# Altium schematic symbol library MATCN.SchLib: 28 symbols
Pins are listed as number, name and electrical type; pins without a type are passive.

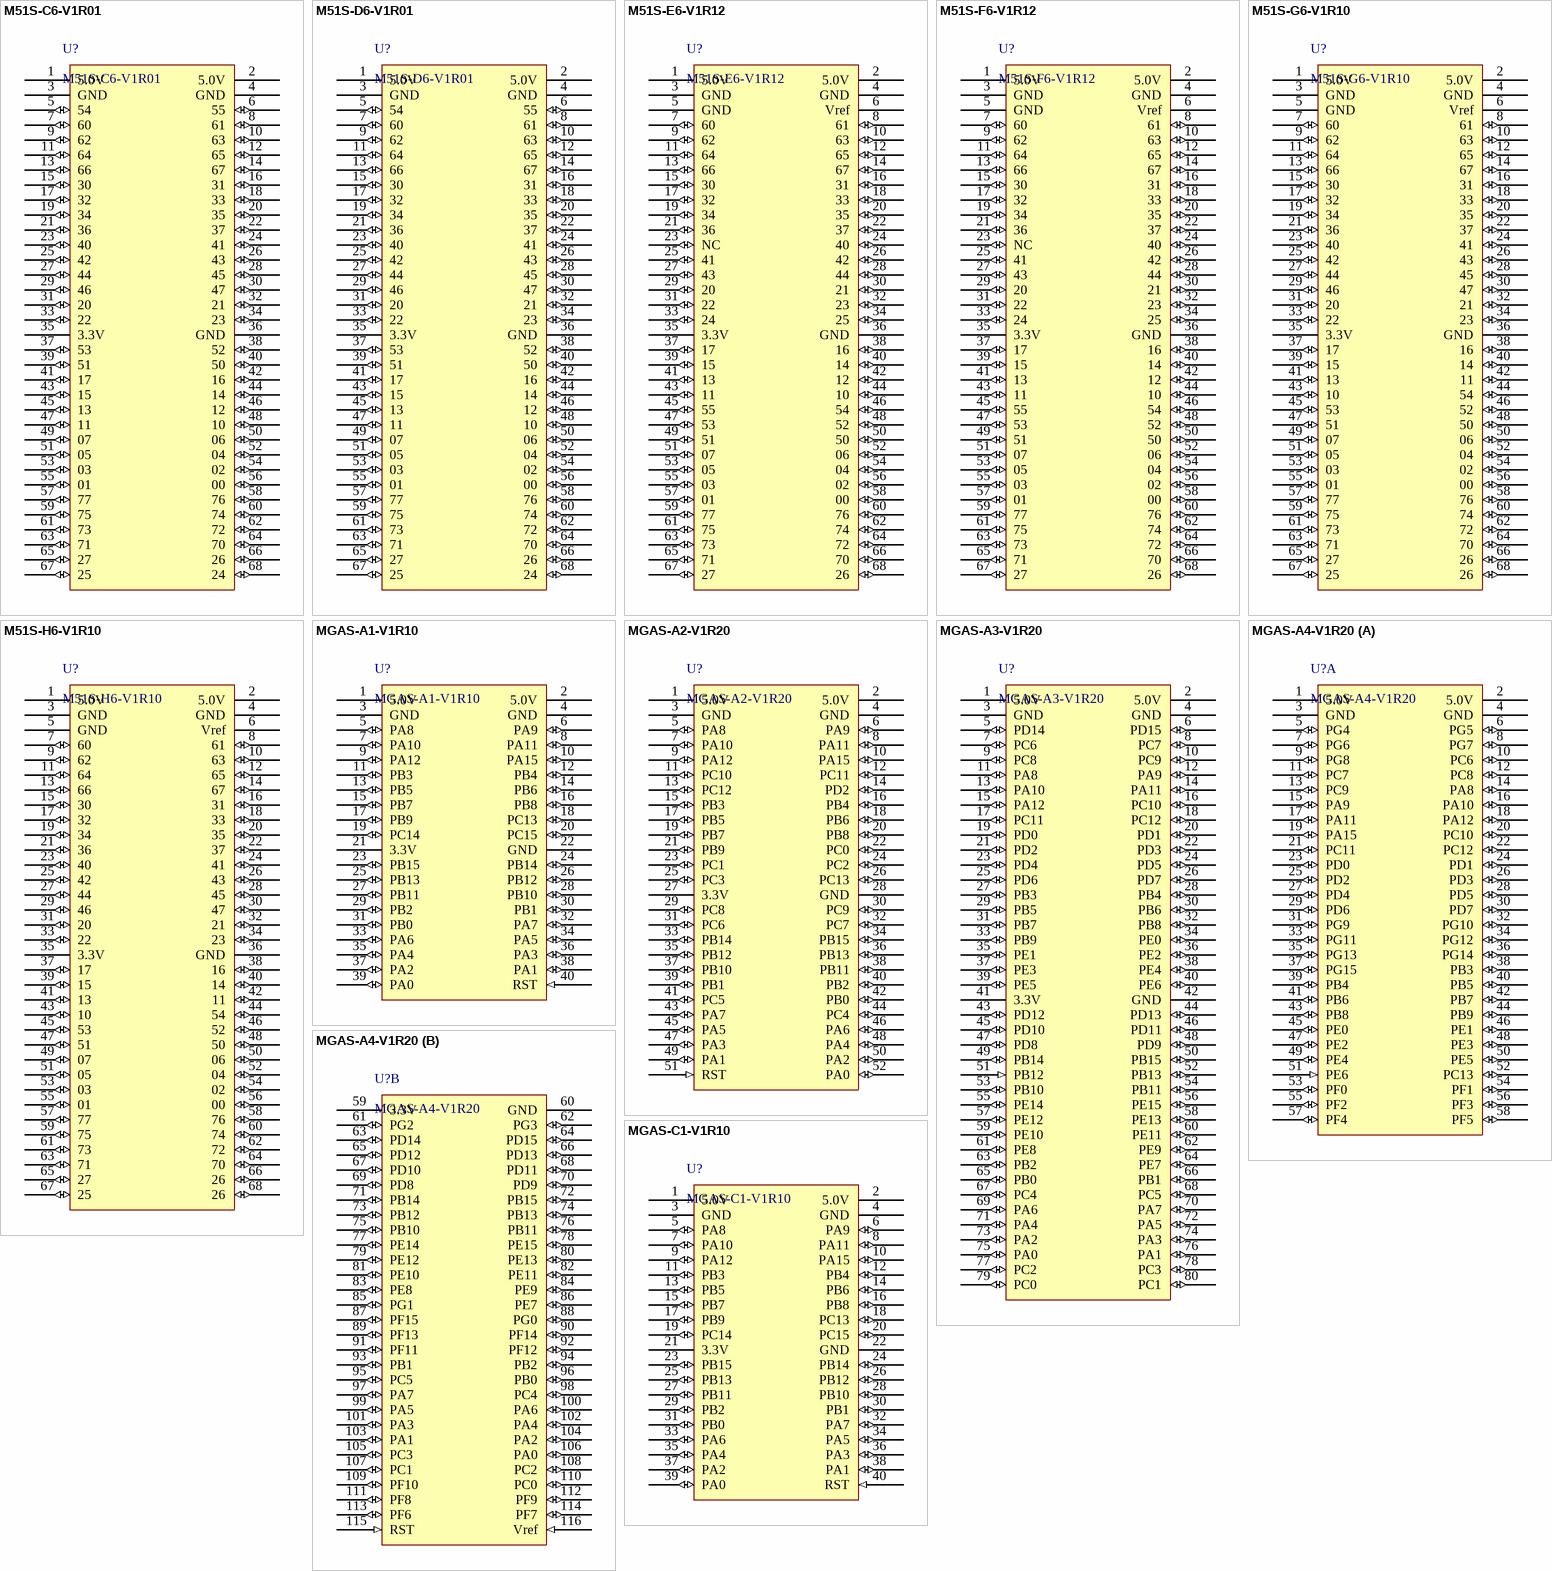
[diagram p0: symbols M51S-C6-V1R01 to MGAS-C1-V1R10]

## M51S-C6-V1R01
designator U?
footprint M51S-C6-PCBLIB-V1R01
pins: 1 5.0V (power), 2 5.0V (power), 3 GND (power), 4 GND (power), 5 54 (io), 6 55 (io), 7 60 (io), 8 61 (io), 9 62 (io), 10 63 (io), 11 64 (io), 12 65 (io), 13 66 (io), 14 67 (io), 15 30 (io), 16 31 (io), 17 32 (io), 18 33 (io), 19 34 (io), 20 35 (io), 21 36 (io), 22 37 (io), 23 40 (io), 24 41 (io), 25 42 (io), 26 43 (io), 27 44 (io), 28 45 (io), 29 46 (io), 30 47 (io), 31 20 (io), 32 21 (io), 33 22 (io), 34 23 (io), 35 3.3V (power), 36 GND (power), 37 53 (io), 38 52 (io), 39 51 (io), 40 50 (io), 41 17 (io), 42 16 (io), 43 15 (io), 44 14 (io), 45 13 (io), 46 12 (io), 47 11 (io), 48 10 (io), 49 07 (io), 50 06 (io), 51 05 (io), 52 04 (io), 53 03 (io), 54 02 (io), 55 01 (io), 56 00 (io), 57 77 (io), 58 76 (io), 59 75 (io), 60 74 (io), 61 73 (io), 62 72 (io), 63 71 (io), 64 70 (io), 65 27 (io), 66 26 (io), 67 25 (io), 68 24 (io)

## M51S-D6-V1R01
designator U?
M51S-D6-V1R01:STC15W4K56S4-30I-LQFP64S
footprint M51S-D6-PCBLIB-V1R01
pins: 1 5.0V (power), 2 5.0V (power), 3 GND (power), 4 GND (power), 5 54 (io), 6 55 (io), 7 60 (io), 8 61 (io), 9 62 (io), 10 63 (io), 11 64 (io), 12 65 (io), 13 66 (io), 14 67 (io), 15 30 (io), 16 31 (io), 17 32 (io), 18 33 (io), 19 34 (io), 20 35 (io), 21 36 (io), 22 37 (io), 23 40 (io), 24 41 (io), 25 42 (io), 26 43 (io), 27 44 (io), 28 45 (io), 29 46 (io), 30 47 (io), 31 20 (io), 32 21 (io), 33 22 (io), 34 23 (io), 35 3.3V (power), 36 GND (power), 37 53 (io), 38 52 (io), 39 51 (io), 40 50 (io), 41 17 (io), 42 16 (io), 43 15 (io), 44 14 (io), 45 13 (io), 46 12 (io), 47 11 (io), 48 10 (io), 49 07 (io), 50 06 (io), 51 05 (io), 52 04 (io), 53 03 (io), 54 02 (io), 55 01 (io), 56 00 (io), 57 77 (io), 58 76 (io), 59 75 (io), 60 74 (io), 61 73 (io), 62 72 (io), 63 71 (io), 64 70 (io), 65 27 (io), 66 26 (io), 67 25 (io), 68 24 (io)

## M51S-E6-V1R12
designator U?
M51S-E6-V1R12:STC8A8K64S4A12-28I-LQFP64
footprint M51S-E6-PCBLIB-V1R12
pins: 1 5.0V (power), 2 5.0V (power), 3 GND (power), 4 GND (power), 5 GND (power), 6 Vref (power), 7 60 (io), 8 61 (io), 9 62 (io), 10 63 (io), 11 64 (io), 12 65 (io), 13 66 (io), 14 67 (io), 15 30 (io), 16 31 (io), 17 32 (io), 18 33 (io), 19 34 (io), 20 35 (io), 21 36 (io), 22 37 (io), 23 NC (io), 24 40 (io), 25 41 (io), 26 42 (io), 27 43 (io), 28 44 (io), 29 20 (io), 30 21 (io), 31 22 (io), 32 23 (io), 33 24 (io), 34 25 (io), 35 3.3V (power), 36 GND (power), 37 17 (io), 38 16 (io), 39 15 (io), 40 14 (io), 41 13 (io), 42 12 (io), 43 11 (io), 44 10 (io), 45 55 (io), 46 54 (io), 47 53 (io), 48 52 (io), 49 51 (io), 50 (io), 51 07 (io), 52 06 (io), 53 05 (io), 54 04 (io), 55 03 (io), 56 02 (io), 57 01 (io), 58 00 (io), 59 77 (io), 60 76 (io), 61 75 (io), 62 74 (io), 63 73 (io), 64 72 (io), 65 71 (io), 66 70 (io), 67 27 (io), 68 26 (io)

## M51S-F6-V1R12
designator U?
M51S-F6-V1R12:STC8A8K64D4-45I-LQFP64
footprint M51S-F6-PCBLIB-V1R12
pins: 1 5.0V (power), 2 5.0V (power), 3 GND (power), 4 GND (power), 5 GND (power), 6 Vref (power), 7 60 (io), 8 61 (io), 9 62 (io), 10 63 (io), 11 64 (io), 12 65 (io), 13 66 (io), 14 67 (io), 15 30 (io), 16 31 (io), 17 32 (io), 18 33 (io), 19 34 (io), 20 35 (io), 21 36 (io), 22 37 (io), 23 NC (io), 24 40 (io), 25 41 (io), 26 42 (io), 27 43 (io), 28 44 (io), 29 20 (io), 30 21 (io), 31 22 (io), 32 23 (io), 33 24 (io), 34 25 (io), 35 3.3V (power), 36 GND (power), 37 17 (io), 38 16 (io), 39 15 (io), 40 14 (io), 41 13 (io), 42 12 (io), 43 11 (io), 44 10 (io), 45 55 (io), 46 54 (io), 47 53 (io), 48 52 (io), 49 51 (io), 50 (io), 51 07 (io), 52 06 (io), 53 05 (io), 54 04 (io), 55 03 (io), 56 02 (io), 57 01 (io), 58 00 (io), 59 77 (io), 60 76 (io), 61 75 (io), 62 74 (io), 63 73 (io), 64 72 (io), 65 71 (io), 66 70 (io), 67 27 (io), 68 26 (io)

## M51S-G6-V1R10
designator U?
M51S-G6-V1R10:STC8H8K64U-45I-LQFP64
footprint M51S-G6-PCBLIB-V1R10
pins: 1 5.0V (power), 2 5.0V (power), 3 GND (power), 4 GND (power), 5 GND (power), 6 Vref (power), 7 60 (io), 8 61 (io), 9 62 (io), 10 63 (io), 11 64 (io), 12 65 (io), 13 66 (io), 14 67 (io), 15 30 (io), 16 31 (io), 17 32 (io), 18 33 (io), 19 34 (io), 20 35 (io), 21 36 (io), 22 37 (io), 23 40 (io), 24 41 (io), 25 42 (io), 26 43 (io), 27 44 (io), 28 45 (io), 29 46 (io), 30 47 (io), 31 20 (io), 32 21 (io), 33 22 (io), 34 23 (io), 35 3.3V (power), 36 GND (power), 37 17 (io), 38 16 (io), 39 15 (io), 40 14 (io), 41 13 (io), 42 11 (io), 43 10 (io), 44 54 (io), 45 53 (io), 46 52 (io), 47 51 (io), 48 50 (io), 49 07 (io), 50 06 (io), 51 05 (io), 52 04 (io), 53 03 (io), 54 02 (io), 55 01 (io), 56 00 (io), 57 77 (io), 58 76 (io), 59 75 (io), 60 74 (io), 61 73 (io), 62 72 (io), 63 71 (io), 64 70 (io), 65 27 (io), 66 26 (io), 67 25 (io), 68 26 (io)

## M51S-H6-V1R10
designator U?
M51S-H6-V1R10:STC32G12K128-Beta-LQFP64
footprint M51S-H6-PCBLIB-V1R10
pins: 1 5.0V (power), 2 5.0V (power), 3 GND (power), 4 GND (power), 5 GND (power), 6 Vref (power), 7 60 (io), 8 61 (io), 9 62 (io), 10 63 (io), 11 64 (io), 12 65 (io), 13 66 (io), 14 67 (io), 15 30 (io), 16 31 (io), 17 32 (io), 18 33 (io), 19 34 (io), 20 35 (io), 21 36 (io), 22 37 (io), 23 40 (io), 24 41 (io), 25 42 (io), 26 43 (io), 27 44 (io), 28 45 (io), 29 46 (io), 30 47 (io), 31 20 (io), 32 21 (io), 33 22 (io), 34 23 (io), 35 3.3V (power), 36 GND (power), 37 17 (io), 38 16 (io), 39 15 (io), 40 14 (io), 41 13 (io), 42 11 (io), 43 10 (io), 44 54 (io), 45 53 (io), 46 52 (io), 47 51 (io), 48 50 (io), 49 07 (io), 50 06 (io), 51 05 (io), 52 04 (io), 53 03 (io), 54 02 (io), 55 01 (io), 56 00 (io), 57 77 (io), 58 76 (io), 59 75 (io), 60 74 (io), 61 73 (io), 62 72 (io), 63 71 (io), 64 70 (io), 65 27 (io), 66 26 (io), 67 25 (io), 68 26 (io)

## MGAS-A1-V1R10
designator U?
MGAS-A1-V1R10:GD32F103C8T6
footprint MGAS-A1-PCBLIB-V1R10
pins: 1 5.0V (power), 2 5.0V (power), 3 GND (power), 4 GND (power), 5 PA8 (io), 6 PA9 (io), 7 PA10 (io), 8 PA11 (io), 9 PA12 (io), 10 PA15 (io), 11 PB3 (io), 12 PB4 (io), 13 PB5 (io), 14 PB6 (io), 15 PB7 (io), 16 PB8 (io), 17 PB9 (io), 18 PC13 (io), 19 PC14 (io), 20 PC15 (io), 21 3.3V (power), 22 GND (power), 23 PB15 (io), 24 PB14 (io), 25 PB13 (io), 26 PB12 (io), 27 PB11 (io), 28 PB10 (io), 29 PB2 (io), 30 PB1 (io), 31 PB0 (io), 32 PA7 (io), 33 PA6 (io), 34 PA5 (io), 35 PA4 (io), 36 PA3 (io), 37 PA2 (io), 38 PA1 (io), 39 PA0 (io), 40 RST (in)

## MGAS-A2-V1R20
designator U?
MGAS-A2-V1R20:GD32F103RCT6
footprint MGAS-A2-PCBLIB-V1R20 (Footprint not found)
pins: 1 5.0V (power), 2 5.0V (power), 3 GND (power), 4 GND (power), 5 PA8 (io), 6 PA9 (io), 7 PA10 (io), 8 PA11 (io), 9 PA12 (io), 10 PA15 (io), 11 PC10 (io), 12 PC11 (io), 13 PC12 (io), 14 PD2 (io), 15 PB3 (io), 16 PB4 (io), 17 PB5 (io), 18 PB6 (io), 19 PB7 (io), 20 PB8 (io), 21 PB9 (io), 22 PC0 (io), 23 PC1 (io), 24 PC2 (io), 25 PC3 (io), 26 PC13 (io), 27 3.3V (power), 28 GND (power), 29 PC8 (io), 30 PC9 (io), 31 PC6 (io), 32 PC7 (io), 33 PB14 (io), 34 PB15 (io), 35 PB12 (io), 36 PB13 (io), 37 PB10 (io), 38 PB11 (io), 39 PB1 (io), 40 PB2 (io), 41 PC5 (io), 42 PB0 (io), 43 PA7 (io), 44 PC4 (io), 45 PA5 (io), 46 PA6 (io), 47 PA3 (io), 48 PA4 (io), 49 PA1 (io), 50 PA2 (io), 51 RST (in), 52 PA0 (io)

## MGAS-A3-V1R20
designator U?
MGAS-A3-V1R20:GD32F103VET6
footprint MGAS-A3-PCBLIB-V1R20
pins: 1 5.0V (power), 2 5.0V (power), 3 GND (power), 4 GND (power), 5 PD14 (io), 6 PD15 (io), 7 PC6 (io), 8 PC7 (io), 9 PC8 (io), 10 PC9 (io), 11 PA8 (io), 12 PA9 (io), 13 PA10 (io), 14 PA11 (io), 15 PA12 (io), 16 PC10 (io), 17 PC11 (io), 18 PC12 (io), 19 PD0 (io), 20 PD1 (io), 21 PD2 (io), 22 PD3 (io), 23 PD4 (io), 24 PD5 (io), 25 PD6 (io), 26 PD7 (io), 27 PB3 (io), 28 PB4 (io), 29 PB5 (io), 30 PB6 (io), 31 PB7 (io), 32 PB8 (io), 33 PB9 (io), 34 PE0 (io), 35 PE1 (io), 36 PE2 (io), 37 PE3 (io), 38 PE4 (io), 39 PE5 (io), 40 PE6 (io), 41 3.3V (power), 42 GND (power), 43 PD12 (io), 44 PD13 (io), 45 PD10 (io), 46 PD11 (io), 47 PD8 (io), 48 PD9 (io), 49 PB14 (io), 50 PB15 (io), 51 PB12 (in), 52 PB13 (io), 53 PB10 (io), 54 PB11 (io), 55 PE14 (io), 56 PE15 (io), 57 PE12 (io), 58 PE13 (io), 59 PE10 (io), 60 PE11 (io), 61 PE8 (io), 62 PE9 (io), 63 PB2 (io), 64 PE7 (io), 65 PB0 (io), 66 PB1 (io), 67 PC4 (io), 68 PC5 (io), 69 PA6 (io), 70 PA7 (io), 71 PA4 (io), 72 PA5 (io), 73 PA2 (io), 74 PA3 (io), 75 PA0 (io), 76 PA1 (io), 77 PC2 (io), 78 PC3 (io), 79 PC0 (io), 80 PC1 (io)

## MGAS-A4-V1R20
designator U?
MGAS-A4-V1R20:GD32F103ZET6
footprint MGAS-A4-PCBLIB-V1R20
part A pins: 1 5.0V (power), 2 5.0V (power), 3 GND (power), 4 GND (power), 5 PG4 (io), 6 PG5 (io), 7 PG6 (io), 8 PG7 (io), 9 PG8 (io), 10 PC6 (io), 11 PC7 (io), 12 PC8 (io), 13 PC9 (io), 14 PA8 (io), 15 PA9 (io), 16 PA10 (io), 17 PA11 (io), 18 PA12 (io), 19 PA15 (io), 20 PC10 (io), 21 PC11 (io), 22 PC12 (io), 23 PD0 (io), 24 PD1 (io), 25 PD2 (io), 26 PD3 (io), 27 PD4 (io), 28 PD5 (io), 29 PD6 (io), 30 PD7 (io), 31 PG9 (io), 32 PG10 (io), 33 PG11 (io), 34 PG12 (io), 35 PG13 (io), 36 PG14 (io), 37 PG15 (io), 38 PB3 (io), 39 PB4 (io), 40 PB5 (io), 41 PB6 (io), 42 PB7 (io), 43 PB8 (io), 44 PB9 (io), 45 PE0 (io), 46 PE1 (io), 47 PE2 (io), 48 PE3 (io), 49 PE4 (io), 50 PE5 (io), 51 PE6 (in), 52 PC13 (io), 53 PF0 (io), 54 PF1 (io), 55 PF2 (io), 56 PF3 (io), 57 PF4 (io), 58 PF5 (io)
part B pins: 59 3.3V (power), 60 GND (power), 61 PG2 (io), 62 PG3 (io), 63 PD14 (io), 64 PD15 (io), 65 PD12 (io), 66 PD13 (io), 67 PD10 (io), 68 PD11 (io), 69 PD8 (io), 70 PD9 (io), 71 PB14 (io), 72 PB15 (io), 73 PB12 (io), 74 PB13 (io), 75 PB10 (io), 76 PB11 (io), 77 PE14 (io), 78 PE15 (io), 79 PE12 (io), 80 PE13 (io), 81 PE10 (io), 82 PE11 (io), 83 PE8 (io), 84 PE9 (io), 85 PG1 (io), 86 PE7 (io), 87 PF15 (io), 88 PG0 (io), 89 PF13 (io), 90 PF14 (io), 91 PF11 (io), 92 PF12 (io), 93 PB1 (io), 94 PB2 (io), 95 PC5 (io), 96 PB0 (io), 97 PA7 (io), 98 PC4 (io), 99 PA5 (io), 100 PA6 (io), 101 PA3 (io), 102 PA4 (io), 103 PA1 (io), 104 PA2 (io), 105 PC3 (io), 106 PA0 (io), 107 PC1 (io), 108 PC2 (io), 109 PF10 (io), 110 PC0 (io), 111 PF8 (io), 112 PF9 (io), 113 PF6 (io), 114 PF7 (io), 115 RST (in), 116 Vref (in)

## MGAS-C1-V1R10
designator U?
MGAS-C1-V1R10:GD32F303CCT6
footprint MGAS-C1-PCBLIB-V1R10
pins: 1 5.0V (power), 2 5.0V (power), 3 GND (power), 4 GND (power), 5 PA8 (io), 6 PA9 (io), 7 PA10 (io), 8 PA11 (io), 9 PA12 (io), 10 PA15 (io), 11 PB3 (io), 12 PB4 (io), 13 PB5 (io), 14 PB6 (io), 15 PB7 (io), 16 PB8 (io), 17 PB9 (io), 18 PC13 (io), 19 PC14 (io), 20 PC15 (io), 21 3.3V (power), 22 GND (power), 23 PB15 (io), 24 PB14 (io), 25 PB13 (io), 26 PB12 (io), 27 PB11 (io), 28 PB10 (io), 29 PB2 (io), 30 PB1 (io), 31 PB0 (io), 32 PA7 (io), 33 PA6 (io), 34 PA5 (io), 35 PA4 (io), 36 PA3 (io), 37 PA2 (io), 38 PA1 (io), 39 PA0 (io), 40 RST (in)

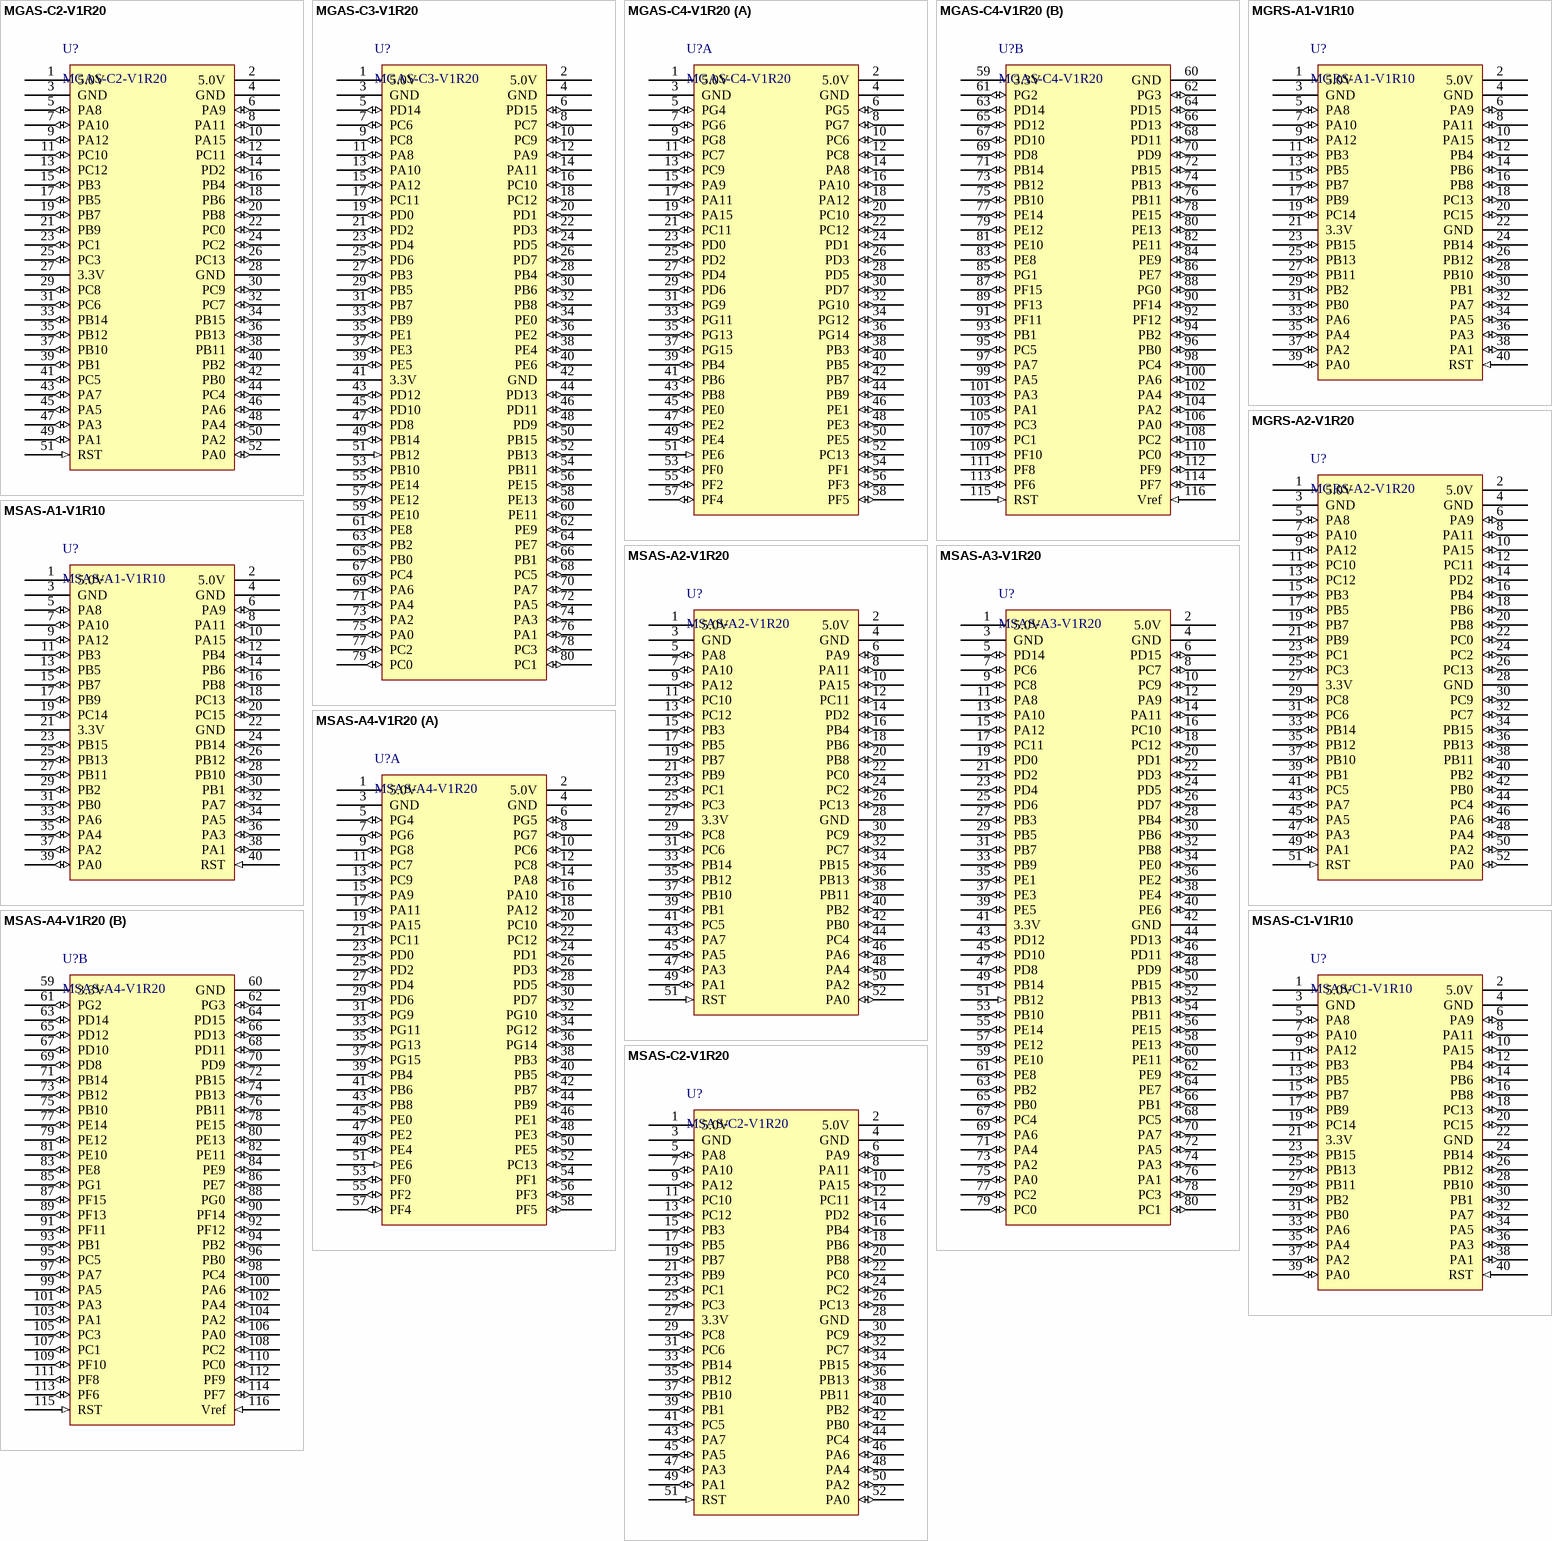
[diagram p1: symbols MGAS-C2-V1R20 to MSAS-C2-V1R20]

## MGAS-C2-V1R20
designator U?
MGAS-C2-V1R20:GD32F303RCT6
footprint MGAS-C2-PCBLIB-V1R20 (Footprint not found)
pins: 1 5.0V (power), 2 5.0V (power), 3 GND (power), 4 GND (power), 5 PA8 (io), 6 PA9 (io), 7 PA10 (io), 8 PA11 (io), 9 PA12 (io), 10 PA15 (io), 11 PC10 (io), 12 PC11 (io), 13 PC12 (io), 14 PD2 (io), 15 PB3 (io), 16 PB4 (io), 17 PB5 (io), 18 PB6 (io), 19 PB7 (io), 20 PB8 (io), 21 PB9 (io), 22 PC0 (io), 23 PC1 (io), 24 PC2 (io), 25 PC3 (io), 26 PC13 (io), 27 3.3V (power), 28 GND (power), 29 PC8 (io), 30 PC9 (io), 31 PC6 (io), 32 PC7 (io), 33 PB14 (io), 34 PB15 (io), 35 PB12 (io), 36 PB13 (io), 37 PB10 (io), 38 PB11 (io), 39 PB1 (io), 40 PB2 (io), 41 PC5 (io), 42 PB0 (io), 43 PA7 (io), 44 PC4 (io), 45 PA5 (io), 46 PA6 (io), 47 PA3 (io), 48 PA4 (io), 49 PA1 (io), 50 PA2 (io), 51 RST (in), 52 PA0 (io)

## MGAS-C3-V1R20
designator U?
MGAS-C3-V1R20:GD32F303VET6
footprint MGAS-C3-PCBLIB-V1R20
pins: 1 5.0V (power), 2 5.0V (power), 3 GND (power), 4 GND (power), 5 PD14 (io), 6 PD15 (io), 7 PC6 (io), 8 PC7 (io), 9 PC8 (io), 10 PC9 (io), 11 PA8 (io), 12 PA9 (io), 13 PA10 (io), 14 PA11 (io), 15 PA12 (io), 16 PC10 (io), 17 PC11 (io), 18 PC12 (io), 19 PD0 (io), 20 PD1 (io), 21 PD2 (io), 22 PD3 (io), 23 PD4 (io), 24 PD5 (io), 25 PD6 (io), 26 PD7 (io), 27 PB3 (io), 28 PB4 (io), 29 PB5 (io), 30 PB6 (io), 31 PB7 (io), 32 PB8 (io), 33 PB9 (io), 34 PE0 (io), 35 PE1 (io), 36 PE2 (io), 37 PE3 (io), 38 PE4 (io), 39 PE5 (io), 40 PE6 (io), 41 3.3V (power), 42 GND (power), 43 PD12 (io), 44 PD13 (io), 45 PD10 (io), 46 PD11 (io), 47 PD8 (io), 48 PD9 (io), 49 PB14 (io), 50 PB15 (io), 51 PB12 (in), 52 PB13 (io), 53 PB10 (io), 54 PB11 (io), 55 PE14 (io), 56 PE15 (io), 57 PE12 (io), 58 PE13 (io), 59 PE10 (io), 60 PE11 (io), 61 PE8 (io), 62 PE9 (io), 63 PB2 (io), 64 PE7 (io), 65 PB0 (io), 66 PB1 (io), 67 PC4 (io), 68 PC5 (io), 69 PA6 (io), 70 PA7 (io), 71 PA4 (io), 72 PA5 (io), 73 PA2 (io), 74 PA3 (io), 75 PA0 (io), 76 PA1 (io), 77 PC2 (io), 78 PC3 (io), 79 PC0 (io), 80 PC1 (io)

## MGAS-C4-V1R20
designator U?
MGAS-C4-V1R20:GD32F303ZET6
footprint MGAS-C4-PCBLIB-V1R20
part A pins: 1 5.0V (power), 2 5.0V (power), 3 GND (power), 4 GND (power), 5 PG4 (io), 6 PG5 (io), 7 PG6 (io), 8 PG7 (io), 9 PG8 (io), 10 PC6 (io), 11 PC7 (io), 12 PC8 (io), 13 PC9 (io), 14 PA8 (io), 15 PA9 (io), 16 PA10 (io), 17 PA11 (io), 18 PA12 (io), 19 PA15 (io), 20 PC10 (io), 21 PC11 (io), 22 PC12 (io), 23 PD0 (io), 24 PD1 (io), 25 PD2 (io), 26 PD3 (io), 27 PD4 (io), 28 PD5 (io), 29 PD6 (io), 30 PD7 (io), 31 PG9 (io), 32 PG10 (io), 33 PG11 (io), 34 PG12 (io), 35 PG13 (io), 36 PG14 (io), 37 PG15 (io), 38 PB3 (io), 39 PB4 (io), 40 PB5 (io), 41 PB6 (io), 42 PB7 (io), 43 PB8 (io), 44 PB9 (io), 45 PE0 (io), 46 PE1 (io), 47 PE2 (io), 48 PE3 (io), 49 PE4 (io), 50 PE5 (io), 51 PE6 (in), 52 PC13 (io), 53 PF0 (io), 54 PF1 (io), 55 PF2 (io), 56 PF3 (io), 57 PF4 (io), 58 PF5 (io)
part B pins: 59 3.3V (power), 60 GND (power), 61 PG2 (io), 62 PG3 (io), 63 PD14 (io), 64 PD15 (io), 65 PD12 (io), 66 PD13 (io), 67 PD10 (io), 68 PD11 (io), 69 PD8 (io), 70 PD9 (io), 71 PB14 (io), 72 PB15 (io), 73 PB12 (io), 74 PB13 (io), 75 PB10 (io), 76 PB11 (io), 77 PE14 (io), 78 PE15 (io), 79 PE12 (io), 80 PE13 (io), 81 PE10 (io), 82 PE11 (io), 83 PE8 (io), 84 PE9 (io), 85 PG1 (io), 86 PE7 (io), 87 PF15 (io), 88 PG0 (io), 89 PF13 (io), 90 PF14 (io), 91 PF11 (io), 92 PF12 (io), 93 PB1 (io), 94 PB2 (io), 95 PC5 (io), 96 PB0 (io), 97 PA7 (io), 98 PC4 (io), 99 PA5 (io), 100 PA6 (io), 101 PA3 (io), 102 PA4 (io), 103 PA1 (io), 104 PA2 (io), 105 PC3 (io), 106 PA0 (io), 107 PC1 (io), 108 PC2 (io), 109 PF10 (io), 110 PC0 (io), 111 PF8 (io), 112 PF9 (io), 113 PF6 (io), 114 PF7 (io), 115 RST (in), 116 Vref (in)

## MGRS-A1-V1R10
designator U?
MGRS-A1-V1R10:GD32VF103C8T6
footprint MGRS-A1-PCBLIB-V1R10
pins: 1 5.0V (power), 2 5.0V (power), 3 GND (power), 4 GND (power), 5 PA8 (io), 6 PA9 (io), 7 PA10 (io), 8 PA11 (io), 9 PA12 (io), 10 PA15 (io), 11 PB3 (io), 12 PB4 (io), 13 PB5 (io), 14 PB6 (io), 15 PB7 (io), 16 PB8 (io), 17 PB9 (io), 18 PC13 (io), 19 PC14 (io), 20 PC15 (io), 21 3.3V (power), 22 GND (power), 23 PB15 (io), 24 PB14 (io), 25 PB13 (io), 26 PB12 (io), 27 PB11 (io), 28 PB10 (io), 29 PB2 (io), 30 PB1 (io), 31 PB0 (io), 32 PA7 (io), 33 PA6 (io), 34 PA5 (io), 35 PA4 (io), 36 PA3 (io), 37 PA2 (io), 38 PA1 (io), 39 PA0 (io), 40 RST (in)

## MGRS-A2-V1R20
designator U?
MGRS-A2-V1R20:GD32VF103R8T6
footprint MGRS-A2-PCBLIB-V1R20 (Footprint not found)
pins: 1 5.0V (power), 2 5.0V (power), 3 GND (power), 4 GND (power), 5 PA8 (io), 6 PA9 (io), 7 PA10 (io), 8 PA11 (io), 9 PA12 (io), 10 PA15 (io), 11 PC10 (io), 12 PC11 (io), 13 PC12 (io), 14 PD2 (io), 15 PB3 (io), 16 PB4 (io), 17 PB5 (io), 18 PB6 (io), 19 PB7 (io), 20 PB8 (io), 21 PB9 (io), 22 PC0 (io), 23 PC1 (io), 24 PC2 (io), 25 PC3 (io), 26 PC13 (io), 27 3.3V (power), 28 GND (power), 29 PC8 (io), 30 PC9 (io), 31 PC6 (io), 32 PC7 (io), 33 PB14 (io), 34 PB15 (io), 35 PB12 (io), 36 PB13 (io), 37 PB10 (io), 38 PB11 (io), 39 PB1 (io), 40 PB2 (io), 41 PC5 (io), 42 PB0 (io), 43 PA7 (io), 44 PC4 (io), 45 PA5 (io), 46 PA6 (io), 47 PA3 (io), 48 PA4 (io), 49 PA1 (io), 50 PA2 (io), 51 RST (in), 52 PA0 (io)

## MSAS-A1-V1R10
designator U?
MSAS-A1-V1R10:STM32F103C8T6
footprint MSAS-A1-PCBLIB-V1R10
pins: 1 5.0V (power), 2 5.0V (power), 3 GND (power), 4 GND (power), 5 PA8 (io), 6 PA9 (io), 7 PA10 (io), 8 PA11 (io), 9 PA12 (io), 10 PA15 (io), 11 PB3 (io), 12 PB4 (io), 13 PB5 (io), 14 PB6 (io), 15 PB7 (io), 16 PB8 (io), 17 PB9 (io), 18 PC13 (io), 19 PC14 (io), 20 PC15 (io), 21 3.3V (power), 22 GND (power), 23 PB15 (io), 24 PB14 (io), 25 PB13 (io), 26 PB12 (io), 27 PB11 (io), 28 PB10 (io), 29 PB2 (io), 30 PB1 (io), 31 PB0 (io), 32 PA7 (io), 33 PA6 (io), 34 PA5 (io), 35 PA4 (io), 36 PA3 (io), 37 PA2 (io), 38 PA1 (io), 39 PA0 (io), 40 RST (in)

## MSAS-A2-V1R20
designator U?
MSAS-A2-V1R20:STM32F103RCT6
footprint MSAS-A2-PCBLIB-V1R20 (Footprint not found)
pins: 1 5.0V (power), 2 5.0V (power), 3 GND (power), 4 GND (power), 5 PA8 (io), 6 PA9 (io), 7 PA10 (io), 8 PA11 (io), 9 PA12 (io), 10 PA15 (io), 11 PC10 (io), 12 PC11 (io), 13 PC12 (io), 14 PD2 (io), 15 PB3 (io), 16 PB4 (io), 17 PB5 (io), 18 PB6 (io), 19 PB7 (io), 20 PB8 (io), 21 PB9 (io), 22 PC0 (io), 23 PC1 (io), 24 PC2 (io), 25 PC3 (io), 26 PC13 (io), 27 3.3V (power), 28 GND (power), 29 PC8 (io), 30 PC9 (io), 31 PC6 (io), 32 PC7 (io), 33 PB14 (io), 34 PB15 (io), 35 PB12 (io), 36 PB13 (io), 37 PB10 (io), 38 PB11 (io), 39 PB1 (io), 40 PB2 (io), 41 PC5 (io), 42 PB0 (io), 43 PA7 (io), 44 PC4 (io), 45 PA5 (io), 46 PA6 (io), 47 PA3 (io), 48 PA4 (io), 49 PA1 (io), 50 PA2 (io), 51 RST (in), 52 PA0 (io)

## MSAS-A3-V1R20
designator U?
MSAS-A3-V1R20:STM32F103VET6
footprint MSAS-A3-PCBLIB-V1R20
pins: 1 5.0V (power), 2 5.0V (power), 3 GND (power), 4 GND (power), 5 PD14 (io), 6 PD15 (io), 7 PC6 (io), 8 PC7 (io), 9 PC8 (io), 10 PC9 (io), 11 PA8 (io), 12 PA9 (io), 13 PA10 (io), 14 PA11 (io), 15 PA12 (io), 16 PC10 (io), 17 PC11 (io), 18 PC12 (io), 19 PD0 (io), 20 PD1 (io), 21 PD2 (io), 22 PD3 (io), 23 PD4 (io), 24 PD5 (io), 25 PD6 (io), 26 PD7 (io), 27 PB3 (io), 28 PB4 (io), 29 PB5 (io), 30 PB6 (io), 31 PB7 (io), 32 PB8 (io), 33 PB9 (io), 34 PE0 (io), 35 PE1 (io), 36 PE2 (io), 37 PE3 (io), 38 PE4 (io), 39 PE5 (io), 40 PE6 (io), 41 3.3V (power), 42 GND (power), 43 PD12 (io), 44 PD13 (io), 45 PD10 (io), 46 PD11 (io), 47 PD8 (io), 48 PD9 (io), 49 PB14 (io), 50 PB15 (io), 51 PB12 (in), 52 PB13 (io), 53 PB10 (io), 54 PB11 (io), 55 PE14 (io), 56 PE15 (io), 57 PE12 (io), 58 PE13 (io), 59 PE10 (io), 60 PE11 (io), 61 PE8 (io), 62 PE9 (io), 63 PB2 (io), 64 PE7 (io), 65 PB0 (io), 66 PB1 (io), 67 PC4 (io), 68 PC5 (io), 69 PA6 (io), 70 PA7 (io), 71 PA4 (io), 72 PA5 (io), 73 PA2 (io), 74 PA3 (io), 75 PA0 (io), 76 PA1 (io), 77 PC2 (io), 78 PC3 (io), 79 PC0 (io), 80 PC1 (io)

## MSAS-A4-V1R20
designator U?
MSAS-A4-V1R20:STM32F103ZET6
footprint MSAS-A4-PCBLIB-V1R20
part A pins: 1 5.0V (power), 2 5.0V (power), 3 GND (power), 4 GND (power), 5 PG4 (io), 6 PG5 (io), 7 PG6 (io), 8 PG7 (io), 9 PG8 (io), 10 PC6 (io), 11 PC7 (io), 12 PC8 (io), 13 PC9 (io), 14 PA8 (io), 15 PA9 (io), 16 PA10 (io), 17 PA11 (io), 18 PA12 (io), 19 PA15 (io), 20 PC10 (io), 21 PC11 (io), 22 PC12 (io), 23 PD0 (io), 24 PD1 (io), 25 PD2 (io), 26 PD3 (io), 27 PD4 (io), 28 PD5 (io), 29 PD6 (io), 30 PD7 (io), 31 PG9 (io), 32 PG10 (io), 33 PG11 (io), 34 PG12 (io), 35 PG13 (io), 36 PG14 (io), 37 PG15 (io), 38 PB3 (io), 39 PB4 (io), 40 PB5 (io), 41 PB6 (io), 42 PB7 (io), 43 PB8 (io), 44 PB9 (io), 45 PE0 (io), 46 PE1 (io), 47 PE2 (io), 48 PE3 (io), 49 PE4 (io), 50 PE5 (io), 51 PE6 (in), 52 PC13 (io), 53 PF0 (io), 54 PF1 (io), 55 PF2 (io), 56 PF3 (io), 57 PF4 (io), 58 PF5 (io)
part B pins: 59 3.3V (power), 60 GND (power), 61 PG2 (io), 62 PG3 (io), 63 PD14 (io), 64 PD15 (io), 65 PD12 (io), 66 PD13 (io), 67 PD10 (io), 68 PD11 (io), 69 PD8 (io), 70 PD9 (io), 71 PB14 (io), 72 PB15 (io), 73 PB12 (io), 74 PB13 (io), 75 PB10 (io), 76 PB11 (io), 77 PE14 (io), 78 PE15 (io), 79 PE12 (io), 80 PE13 (io), 81 PE10 (io), 82 PE11 (io), 83 PE8 (io), 84 PE9 (io), 85 PG1 (io), 86 PE7 (io), 87 PF15 (io), 88 PG0 (io), 89 PF13 (io), 90 PF14 (io), 91 PF11 (io), 92 PF12 (io), 93 PB1 (io), 94 PB2 (io), 95 PC5 (io), 96 PB0 (io), 97 PA7 (io), 98 PC4 (io), 99 PA5 (io), 100 PA6 (io), 101 PA3 (io), 102 PA4 (io), 103 PA1 (io), 104 PA2 (io), 105 PC3 (io), 106 PA0 (io), 107 PC1 (io), 108 PC2 (io), 109 PF10 (io), 110 PC0 (io), 111 PF8 (io), 112 PF9 (io), 113 PF6 (io), 114 PF7 (io), 115 RST (in), 116 Vref (in)

## MSAS-C1-V1R10
designator U?
footprint MSAS-C1-PCBLIB-V1R10
pins: 1 5.0V (power), 2 5.0V (power), 3 GND (power), 4 GND (power), 5 PA8 (io), 6 PA9 (io), 7 PA10 (io), 8 PA11 (io), 9 PA12 (io), 10 PA15 (io), 11 PB3 (io), 12 PB4 (io), 13 PB5 (io), 14 PB6 (io), 15 PB7 (io), 16 PB8 (io), 17 PB9 (io), 18 PC13 (io), 19 PC14 (io), 20 PC15 (io), 21 3.3V (power), 22 GND (power), 23 PB15 (io), 24 PB14 (io), 25 PB13 (io), 26 PB12 (io), 27 PB11 (io), 28 PB10 (io), 29 PB2 (io), 30 PB1 (io), 31 PB0 (io), 32 PA7 (io), 33 PA6 (io), 34 PA5 (io), 35 PA4 (io), 36 PA3 (io), 37 PA2 (io), 38 PA1 (io), 39 PA0 (io), 40 RST (in)

## MSAS-C2-V1R20
designator U?
footprint MSAS-C2-PCBLIB-V1R20 (Footprint not found)
pins: 1 5.0V (power), 2 5.0V (power), 3 GND (power), 4 GND (power), 5 PA8 (io), 6 PA9 (io), 7 PA10 (io), 8 PA11 (io), 9 PA12 (io), 10 PA15 (io), 11 PC10 (io), 12 PC11 (io), 13 PC12 (io), 14 PD2 (io), 15 PB3 (io), 16 PB4 (io), 17 PB5 (io), 18 PB6 (io), 19 PB7 (io), 20 PB8 (io), 21 PB9 (io), 22 PC0 (io), 23 PC1 (io), 24 PC2 (io), 25 PC3 (io), 26 PC13 (io), 27 3.3V (power), 28 GND (power), 29 PC8 (io), 30 PC9 (io), 31 PC6 (io), 32 PC7 (io), 33 PB14 (io), 34 PB15 (io), 35 PB12 (io), 36 PB13 (io), 37 PB10 (io), 38 PB11 (io), 39 PB1 (io), 40 PB2 (io), 41 PC5 (io), 42 PB0 (io), 43 PA7 (io), 44 PC4 (io), 45 PA5 (io), 46 PA6 (io), 47 PA3 (io), 48 PA4 (io), 49 PA1 (io), 50 PA2 (io), 51 RST (in), 52 PA0 (io)

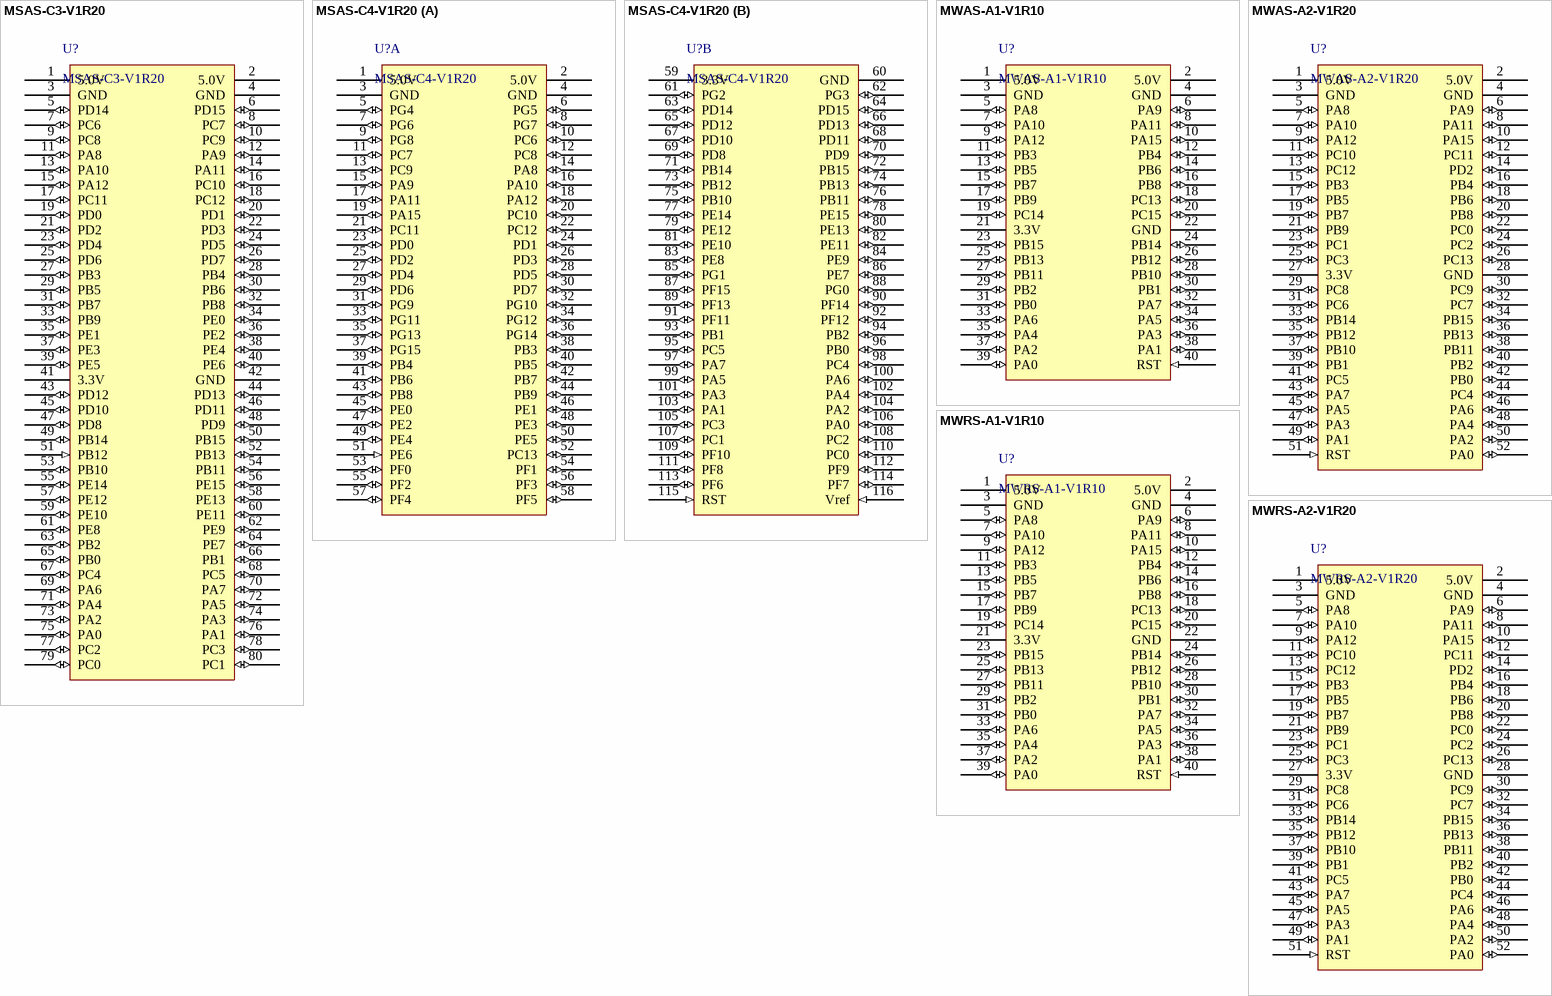
[diagram p2: symbols MSAS-C3-V1R20 to MWRS-A2-V1R20]

## MSAS-C3-V1R20
designator U?
footprint MSAS-C3-PCBLIB-V1R20
pins: 1 5.0V (power), 2 5.0V (power), 3 GND (power), 4 GND (power), 5 PD14 (io), 6 PD15 (io), 7 PC6 (io), 8 PC7 (io), 9 PC8 (io), 10 PC9 (io), 11 PA8 (io), 12 PA9 (io), 13 PA10 (io), 14 PA11 (io), 15 PA12 (io), 16 PC10 (io), 17 PC11 (io), 18 PC12 (io), 19 PD0 (io), 20 PD1 (io), 21 PD2 (io), 22 PD3 (io), 23 PD4 (io), 24 PD5 (io), 25 PD6 (io), 26 PD7 (io), 27 PB3 (io), 28 PB4 (io), 29 PB5 (io), 30 PB6 (io), 31 PB7 (io), 32 PB8 (io), 33 PB9 (io), 34 PE0 (io), 35 PE1 (io), 36 PE2 (io), 37 PE3 (io), 38 PE4 (io), 39 PE5 (io), 40 PE6 (io), 41 3.3V (power), 42 GND (power), 43 PD12 (io), 44 PD13 (io), 45 PD10 (io), 46 PD11 (io), 47 PD8 (io), 48 PD9 (io), 49 PB14 (io), 50 PB15 (io), 51 PB12 (in), 52 PB13 (io), 53 PB10 (io), 54 PB11 (io), 55 PE14 (io), 56 PE15 (io), 57 PE12 (io), 58 PE13 (io), 59 PE10 (io), 60 PE11 (io), 61 PE8 (io), 62 PE9 (io), 63 PB2 (io), 64 PE7 (io), 65 PB0 (io), 66 PB1 (io), 67 PC4 (io), 68 PC5 (io), 69 PA6 (io), 70 PA7 (io), 71 PA4 (io), 72 PA5 (io), 73 PA2 (io), 74 PA3 (io), 75 PA0 (io), 76 PA1 (io), 77 PC2 (io), 78 PC3 (io), 79 PC0 (io), 80 PC1 (io)

## MSAS-C4-V1R20
designator U?
footprint MSAS-C4-PCBLIB-V1R20
part A pins: 1 5.0V (power), 2 5.0V (power), 3 GND (power), 4 GND (power), 5 PG4 (io), 6 PG5 (io), 7 PG6 (io), 8 PG7 (io), 9 PG8 (io), 10 PC6 (io), 11 PC7 (io), 12 PC8 (io), 13 PC9 (io), 14 PA8 (io), 15 PA9 (io), 16 PA10 (io), 17 PA11 (io), 18 PA12 (io), 19 PA15 (io), 20 PC10 (io), 21 PC11 (io), 22 PC12 (io), 23 PD0 (io), 24 PD1 (io), 25 PD2 (io), 26 PD3 (io), 27 PD4 (io), 28 PD5 (io), 29 PD6 (io), 30 PD7 (io), 31 PG9 (io), 32 PG10 (io), 33 PG11 (io), 34 PG12 (io), 35 PG13 (io), 36 PG14 (io), 37 PG15 (io), 38 PB3 (io), 39 PB4 (io), 40 PB5 (io), 41 PB6 (io), 42 PB7 (io), 43 PB8 (io), 44 PB9 (io), 45 PE0 (io), 46 PE1 (io), 47 PE2 (io), 48 PE3 (io), 49 PE4 (io), 50 PE5 (io), 51 PE6 (in), 52 PC13 (io), 53 PF0 (io), 54 PF1 (io), 55 PF2 (io), 56 PF3 (io), 57 PF4 (io), 58 PF5 (io)
part B pins: 59 3.3V (power), 60 GND (power), 61 PG2 (io), 62 PG3 (io), 63 PD14 (io), 64 PD15 (io), 65 PD12 (io), 66 PD13 (io), 67 PD10 (io), 68 PD11 (io), 69 PD8 (io), 70 PD9 (io), 71 PB14 (io), 72 PB15 (io), 73 PB12 (io), 74 PB13 (io), 75 PB10 (io), 76 PB11 (io), 77 PE14 (io), 78 PE15 (io), 79 PE12 (io), 80 PE13 (io), 81 PE10 (io), 82 PE11 (io), 83 PE8 (io), 84 PE9 (io), 85 PG1 (io), 86 PE7 (io), 87 PF15 (io), 88 PG0 (io), 89 PF13 (io), 90 PF14 (io), 91 PF11 (io), 92 PF12 (io), 93 PB1 (io), 94 PB2 (io), 95 PC5 (io), 96 PB0 (io), 97 PA7 (io), 98 PC4 (io), 99 PA5 (io), 100 PA6 (io), 101 PA3 (io), 102 PA4 (io), 103 PA1 (io), 104 PA2 (io), 105 PC3 (io), 106 PA0 (io), 107 PC1 (io), 108 PC2 (io), 109 PF10 (io), 110 PC0 (io), 111 PF8 (io), 112 PF9 (io), 113 PF6 (io), 114 PF7 (io), 115 RST (in), 116 Vref (in)

## MWAS-A1-V1R10
designator U?
footprint MWAS-A1-PCBLIB-V1R10
pins: 1 5.0V (power), 2 5.0V (power), 3 GND (power), 4 GND (power), 5 PA8 (io), 6 PA9 (io), 7 PA10 (io), 8 PA11 (io), 9 PA12 (io), 10 PA15 (io), 11 PB3 (io), 12 PB4 (io), 13 PB5 (io), 14 PB6 (io), 15 PB7 (io), 16 PB8 (io), 17 PB9 (io), 18 PC13 (io), 19 PC14 (io), 20 PC15 (io), 21 3.3V (power), 22 GND (power), 23 PB15 (io), 24 PB14 (io), 25 PB13 (io), 26 PB12 (io), 27 PB11 (io), 28 PB10 (io), 29 PB2 (io), 30 PB1 (io), 31 PB0 (io), 32 PA7 (io), 33 PA6 (io), 34 PA5 (io), 35 PA4 (io), 36 PA3 (io), 37 PA2 (io), 38 PA1 (io), 39 PA0 (io), 40 RST (in)

## MWAS-A2-V1R20
designator U?
footprint MWAS-A2-PCBLIB-V1R20 (Footprint not found)
pins: 1 5.0V (power), 2 5.0V (power), 3 GND (power), 4 GND (power), 5 PA8 (io), 6 PA9 (io), 7 PA10 (io), 8 PA11 (io), 9 PA12 (io), 10 PA15 (io), 11 PC10 (io), 12 PC11 (io), 13 PC12 (io), 14 PD2 (io), 15 PB3 (io), 16 PB4 (io), 17 PB5 (io), 18 PB6 (io), 19 PB7 (io), 20 PB8 (io), 21 PB9 (io), 22 PC0 (io), 23 PC1 (io), 24 PC2 (io), 25 PC3 (io), 26 PC13 (io), 27 3.3V (power), 28 GND (power), 29 PC8 (io), 30 PC9 (io), 31 PC6 (io), 32 PC7 (io), 33 PB14 (io), 34 PB15 (io), 35 PB12 (io), 36 PB13 (io), 37 PB10 (io), 38 PB11 (io), 39 PB1 (io), 40 PB2 (io), 41 PC5 (io), 42 PB0 (io), 43 PA7 (io), 44 PC4 (io), 45 PA5 (io), 46 PA6 (io), 47 PA3 (io), 48 PA4 (io), 49 PA1 (io), 50 PA2 (io), 51 RST (in), 52 PA0 (io)

## MWRS-A1-V1R10
designator U?
footprint MWRS-A1-PCBLIB-V1R10
pins: 1 5.0V (power), 2 5.0V (power), 3 GND (power), 4 GND (power), 5 PA8 (io), 6 PA9 (io), 7 PA10 (io), 8 PA11 (io), 9 PA12 (io), 10 PA15 (io), 11 PB3 (io), 12 PB4 (io), 13 PB5 (io), 14 PB6 (io), 15 PB7 (io), 16 PB8 (io), 17 PB9 (io), 18 PC13 (io), 19 PC14 (io), 20 PC15 (io), 21 3.3V (power), 22 GND (power), 23 PB15 (io), 24 PB14 (io), 25 PB13 (io), 26 PB12 (io), 27 PB11 (io), 28 PB10 (io), 29 PB2 (io), 30 PB1 (io), 31 PB0 (io), 32 PA7 (io), 33 PA6 (io), 34 PA5 (io), 35 PA4 (io), 36 PA3 (io), 37 PA2 (io), 38 PA1 (io), 39 PA0 (io), 40 RST (in)

## MWRS-A2-V1R20
designator U?
footprint MWRS-A2-PCBLIB-V1R20 (Footprint not found)
pins: 1 5.0V (power), 2 5.0V (power), 3 GND (power), 4 GND (power), 5 PA8 (io), 6 PA9 (io), 7 PA10 (io), 8 PA11 (io), 9 PA12 (io), 10 PA15 (io), 11 PC10 (io), 12 PC11 (io), 13 PC12 (io), 14 PD2 (io), 15 PB3 (io), 16 PB4 (io), 17 PB5 (io), 18 PB6 (io), 19 PB7 (io), 20 PB8 (io), 21 PB9 (io), 22 PC0 (io), 23 PC1 (io), 24 PC2 (io), 25 PC3 (io), 26 PC13 (io), 27 3.3V (power), 28 GND (power), 29 PC8 (io), 30 PC9 (io), 31 PC6 (io), 32 PC7 (io), 33 PB14 (io), 34 PB15 (io), 35 PB12 (io), 36 PB13 (io), 37 PB10 (io), 38 PB11 (io), 39 PB1 (io), 40 PB2 (io), 41 PC5 (io), 42 PB0 (io), 43 PA7 (io), 44 PC4 (io), 45 PA5 (io), 46 PA6 (io), 47 PA3 (io), 48 PA4 (io), 49 PA1 (io), 50 PA2 (io), 51 RST (in), 52 PA0 (io)